# Altium schematic symbol library SerialConnector.SchLib: 1 symbol
Pins are listed as number, name and electrical type; pins without a type are passive.

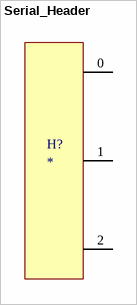
[diagram p0: symbol Serial_Header]

## Serial_Header
designator H?
footprint Serial_Connector
pins: 0  , 1  , 2  